# EAGLE library part MCP2515-I/P (library E-P-099-R2.2)
Stand-Alone CAN Controller
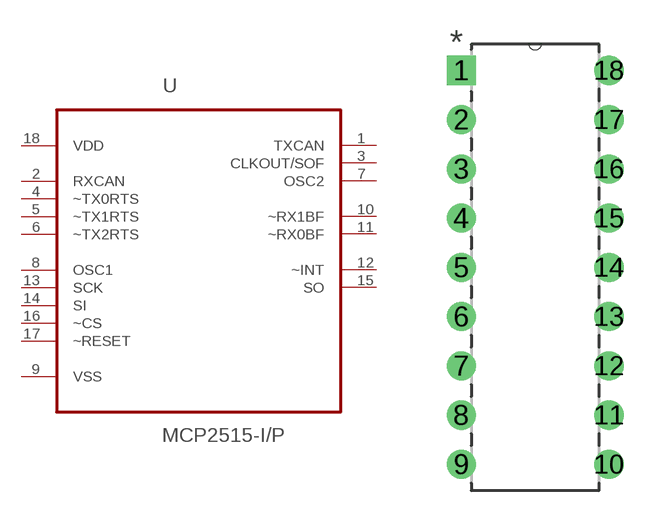
[diagram p2: symbol with the pads of DIP254P762X432-18; footprint DIP254P762X432-18]

Designator prefix -

## MCP2515-I/P (DESCRIPTION: CAN CONTRL; MPN: MCP2515-I/P; OC_FARNELL: 1439391; OC_NEWARK: 61K2945; PACKAGE: PDIP-18; SUPPLIER: MICROCHIP)  [DIP254P762X432-18]
1  TXCAN  out
2  RXCAN  in
3  CLKOUT/SOF  out
4  ~TX0RTS  in
5  ~TX1RTS  in
6  ~TX2RTS  in
7  OSC2  out
8  OSC1  in
9  VSS  pwr
10  ~RX1BF  out
11  ~RX0BF  out
12  ~INT  out
13  SCK  in
14  SI  in
15  SO  out
16  ~CS  in
17  ~RESET  in
18  VDD  pwr

## Footprint DIP254P762X432-18 (pad centres in mm)
drill 0.991 square: 1 -7.62,20.32
drill 0.991: 2 -7.62,17.78; 3 -7.62,15.24; 4 -7.62,12.7; 5 -7.62,10.16; 6 -7.62,7.62; 7 -7.62,5.08; 8 -7.62,2.54; 9 -7.62,0; 10 0,0; 11 0,2.54; 12 0,5.08; 13 0,7.62; 14 0,10.16; 15 0,12.7; 16 0,15.24; 17 0,17.78; 18 0,20.32